# Altium integrated library TLV75730PDRVR.IntLib: 1 symbol
Pins are listed as number, name and electrical type; pins without a type are passive.

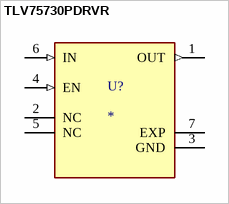
[diagram p0: symbol TLV75730PDRVR]

## TLV75730PDRVR
designator U?
1-A, low-IQ, high-accuracy, low-dropout voltage regulator with enable; MF: Texas Instruments; MP: TLV75730PDRVR; Digi-Key_Part_Number: 296-50008-2-ND; Purchase-URL: https://pricing.snapeda.com/search/part/TLV75730PDRVR/?ref=eda; SnapEDA_Link: https://www.snapeda.com/parts/TLV75730PDRVR/Texas+Instruments/view-part/?ref=snap; Value: *; Package: WSON-6 Texas Instruments; Check_prices: https://www.snapeda.com/parts/TLV75730PDRVR/Texas+Instruments/view-part/?ref=eda
footprint VREG_TLV75730PDRVR
pins: 1 OUT (out), 2 NC, 3 GND (power), 4 EN (in), 5 NC, 6 IN (in), 7 EXP (power)